# EAGLE library part UM7-LT (library kotuku)
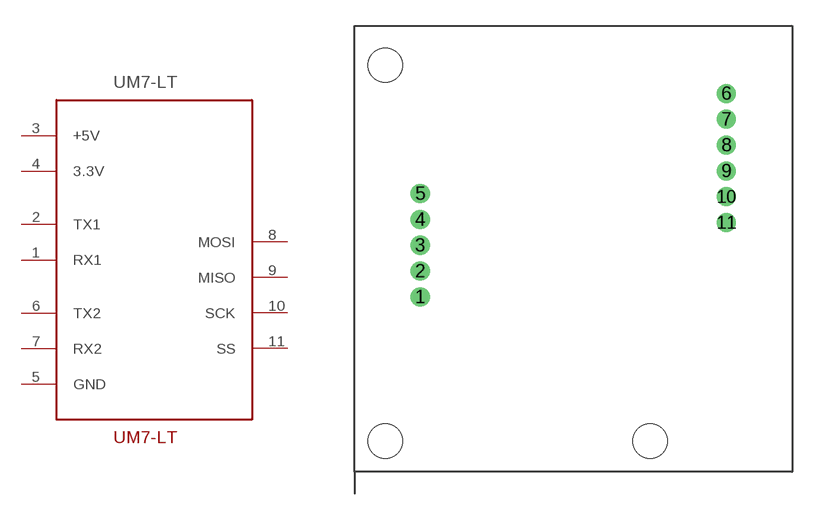
[diagram p14: symbol with the pads of UM7-LT; footprint UM7-LT]

Designator prefix -

## UM7-LT  [UM7-LT]
1  RX1
2  TX1
3  +5V
4  3.3V
5  GND
6  TX2
7  RX2
8  MOSI
9  MISO
10  SCK
11  SS

## Footprint UM7-LT (pad centres in mm)
drill 0.6: 1 3.81,10.16; 2 3.81,11.66; 3 3.81,13.16; 4 3.81,14.66; 5 3.81,16.16; 6 21.59,21.978; 7 21.59,20.478; 8 21.59,18.978; 9 21.59,17.478; 10 21.59,15.978; 11 21.59,14.478
hole 2 at 1.778,1.778
hole 2 at 1.778,23.622
hole 2 at 17.145,1.778